# Altium footprint library SOT-323.PcbLib: 1 footprints
Each footprint in its own frame and in the unit in brackets; x right, y up, seen from the top. Pads: shape width x height; smd on the part's side, far side on the other; paste and mask are expansions set on the pad; w line width, h text height; cw(c..) or ccw(c..) is an arc to the next point about the centre after c.
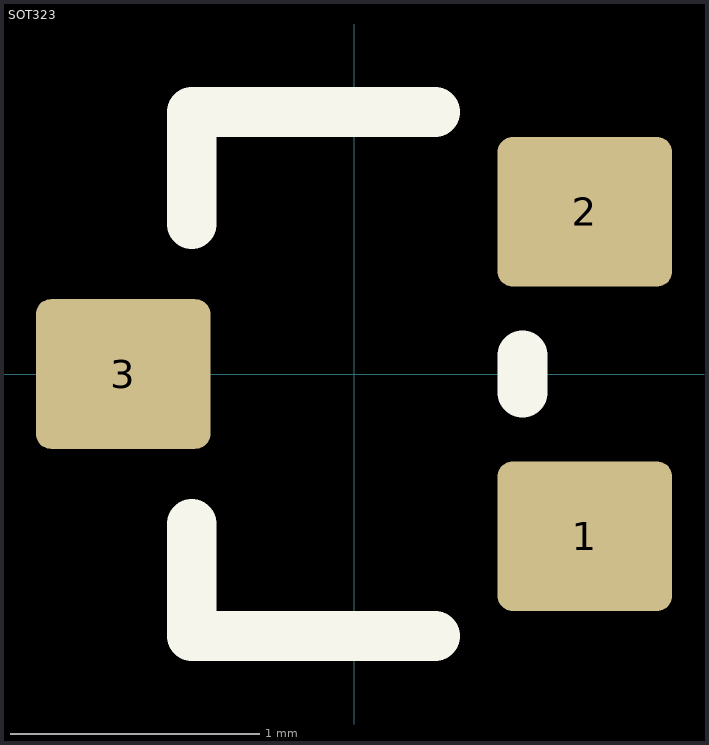
[diagram p0: the footprint, top view; thin cyan lines are the x and y axes]

## SOT323 [mm]
height 11
pads (3):
  rrect20% 0.7x0.6 smd: 1(0.925,-0.65) 2(0.925,0.65) 3(-0.925,0)
Top Overlay:
  lines w0.2: -0.65,-0.6 -0.65,-1.05 0.325,-1.05 ; -0.65,0.6 -0.65,1.05 0.325,1.05 ; 0.675,-0.075 0.675,0.075
3D body "User Library-sc70-3.step": height 1, standoff 0, extent -1.15,-1.05 1.15,1.05